# Altium schematic symbol library Schlib1.SchLib: 1 symbol
Pins are listed as number, name and electrical type; pins without a type are passive.

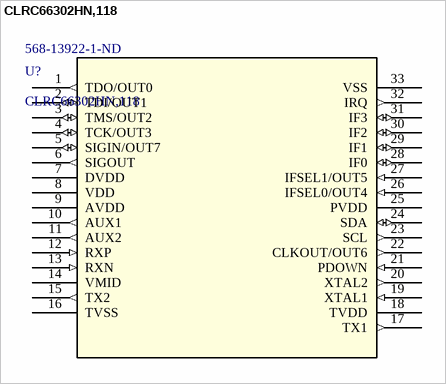
[diagram p0: symbol CLRC66302HN,118]

## CLRC66302HN,118
designator U?  Supplier Part Number 1: 568-13922-1-ND
Telecom Circuit, 1-Func, CMOS, PQCC32; Mfr_Name: NXP; Manufacturer: NXP Semiconductors; Package Body Material: Plastic; Number of Functions: 1; Supply Voltage-Nom: 5V; Copyright: Copyright (C) 2023 Ultra Librarian. All rights reserved.; Manufacturer_Part_Number: CLRC66302HN,118; RefDes: RefDes; Type: DEV; Supplier 1: Digi-Key; Manufacturer Part Number: CLRC66302HN,118; RoHS: Yes; Category: RF Semiconductors and Devices; Stock 1: 15797; Pricing 1: 1=10.72, 10=9.696, 25=8.9308, 100=8.1653, 250=7.655, 500=7.14466, 1000=6.78743 (USD); Package Code: HVQCCN; Number of Pins: 32; Package Shape: Square; Min Operating Temperature: -25°C; Max Operating Temperature: 85°C; JESD-30 Code: S-PQCC-N32; Moisture Sensitivity Level: 1; Package Style: CHIP CARRIER, HEAT SINK/SLUG, VERY THIN PROFILEMeter; Surface Mount: Yes; Technology: CMOS; Telecom IC Type: TELECOM CIRCUIT; Terminal Form: No Lead; Terminal Position: QUAD; Length: 5mm; Width: 5mm; Height - Seated (Max): 1mm; Terminal Pitch: 0.5mm; Temperature Grade: OTHER; Reach SVHC Compliant: Yes; RoHS Compliant: Yes; ComponentLink1URL: https://datasheet.ciiva.com:443/pdfs/VipMasterIC/IC/PHGL/PHGLS30447/PHGLS30447-1.pdf?src-supplier=IHS+Markit; ComponentLink1Description: https://datasheet.ciiva.com:443/pdfs/VipMasterIC/IC/PHGL/PHGLS30447/PHGLS30447-1.pdf?src-supplier=IHS+Markit; ComponentLink2URL: https://datasheet.ciiva.com/8149/clrc663-8149081.pdf?src-supplier=Avnet; ComponentLink2Description: https://datasheet.ciiva.com/8149/clrc663-8149081.pdf?src-supplier=Avnet
footprint HVQFN32_SOT617-1_NXP
pins: 1 TDO/OUT0 (out), 2 TDI/OUT1 (io), 3 TMS/OUT2 (io), 4 TCK/OUT3 (io), 5 SIGIN/OUT7 (io), 6 SIGOUT (out), 7 DVDD (power), 8 VDD (power), 9 AVDD (power), 10 AUX1 (out), 11 AUX2 (out), 12 RXP (in), 13 RXN (in), 14 VMID (power), 15 TX2 (out), 16 TVSS (power), 17 TX1 (out), 18 TVDD (power), 19 XTAL1 (in), 20 XTAL2 (out), 21 PDOWN (in), 22 CLKOUT/OUT6 (out), 23 SCL (out), 24 SDA (io), 25 PVDD (power), 26 IFSEL0/OUT4 (in), 27 IFSEL1/OUT5 (in), 28 IF0 (io), 29 IF1 (io), 30 IF2 (io), 31 IF3 (io), 32 IRQ (out), 33 VSS (power)